# EAGLE library part LD39100PU33RY (library voltage-regulator)
LDO Voltage Regulators 1 A low quiescent current low noise voltage regulator <https://componentsearchengine.com/Images/9/LD39100PU33RY.jpg> Source: Datasheet <http://www.st.com/content/ccc/resource/technical/document/datasheet/72/02/e5/ee/df/36/40/5e/CD00233788.pdf/files/CD00233788.pdf/jcr:content/translations/en.CD00233788.pdf>
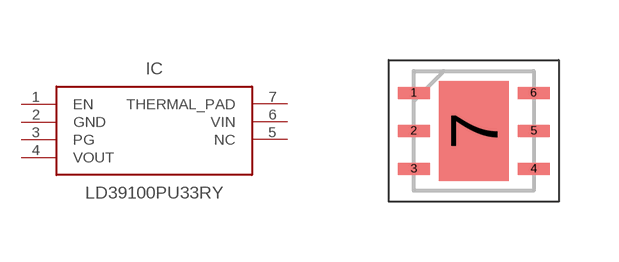
[diagram p1: symbol with the pads of SON95P300X300X90-7N; footprint SON95P300X300X90-7N]

Designator prefix IC

## LD39100PU33RY (DESCRIPTION: LDO Voltage Regulators 1 A low quiescent current low noise voltage regulator; HEIGHT: 0.9mm; MANUFACTURER_NAME: STMicroelectronics; MANUFACTURER_PART_NUMBER: LD39100PU33RY; SUPPLIER_NAME: RS)  [SON95P300X300X90-7N]
1  EN  pas
2  GND  pas
3  PG  pas
4  VOUT  pas
5  NC  nc
6  VIN  pas
7  THERMAL_PAD  pas

## Footprint SON95P300X300X90-7N (pad centres in mm)
DFN6(3X3)_1
smd 0.8 x 0.3: 1 -1.5,0.95; 2 -1.5,0; 3 -1.5,-0.95; 4 1.5,-0.95; 5 1.5,0; 6 1.5,0.95
smd 1.75 x 2.5: 7 0,0